# Altium footprint library etb_drv.PcbLib: 19 footprints (part 2 of 2)
Each footprint in its own frame and in the unit in brackets; x right, y up, seen from the top. Pads: shape width x height; smd on the part's side, far side on the other; paste and mask are expansions set on the pad; w line width, h text height; cw(c..) or ccw(c..) is an arc to the next point about the centre after c.
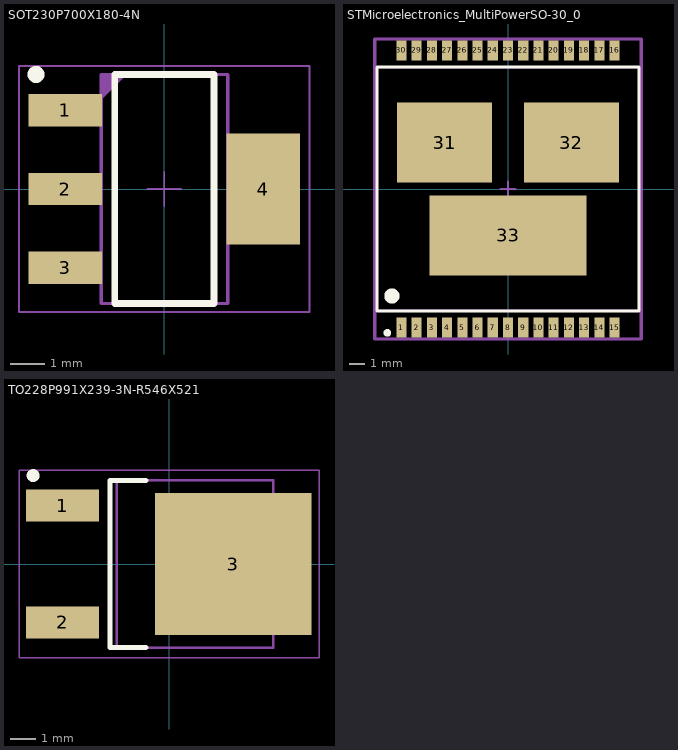
[diagram p1: the footprints below, top view; thin cyan lines are the x and y axes]

## SOT230P700X180-4N [mm]
pads (4):
  rect 2.15x0.95 smd: 1(-2.9,2.3) 2(-2.9,0) 3(-2.9,-2.3)
  rect 2.15x3.25 smd: 4(2.9,0)
Top Overlay:
  circle w0.25: c-3.75,3.35 r0.125
  lines w0.2: -1.45,-3.35 -1.45,3.35 1.45,3.35 1.45,-3.35 -1.45,-3.35
Mechanical 14:
  lines w0.1: -1.85,2.675 -1.175,3.35 ; -1.85,2.75 -1.25,3.35 ; -1.85,2.85 -1.35,3.35 ; -1.85,2.95 -1.45,3.35 ; -1.85,3.05 -1.55,3.35 ; -1.85,3.15 -1.65,3.35 ; -1.85,3.25 -1.75,3.35 ; -1.85,-3.35 -1.85,3.35 1.85,3.35 1.85,-3.35 -1.85,-3.35
Mechanical 15:
  lines w0.05: -0.5,0 0.5,0 ; 0,-0.5 0,0.5 ; -4.25,-3.6 -4.25,3.6 4.25,3.6 4.25,-3.6 -4.25,-3.6
3D body "SOT230P700X180-4N.stp": height 1.81, standoff 0, extent -3.649,-3.35 3.649,3.35

## STMicroelectronics_MultiPowerSO-30_0 [mm]
pads (33):
  rect 0.665x1.3 smd paste+0 mask+0: 1(-7,-9.1) 2(-6,-9.1) 3(-5,-9.1) 4(-4,-9.1) 5(-3,-9.1) 6(-2,-9.1) 7(-1,-9.1) 8(0,-9.1) 9(1,-9.1) 10(2,-9.1) 11(3,-9.1) 12(4,-9.1) 13(5,-9.1) 14(6,-9.1) 15(7,-9.1) 16(7,9.1) 17(6,9.1) 18(5,9.1) 19(4,9.1) 20(3,9.1) 21(2,9.1) 22(1,9.1) 23(0,9.1) 24(-1,9.1) 25(-2,9.1) 26(-3,9.1) 27(-4,9.1) 28(-5,9.1) 29(-6,9.1) 30(-7,9.1)
  rect 6.23x5.25 smd paste+0 mask+0: 31(-4.165,3.05) 32(4.165,3.05)
  rect 10.3x5.25 smd paste+0 mask+0: 33(0,-3.05)
Top Overlay:
  circle w0.5: c-7.625,-7.025 r0.25
  circle w0.25: c-7.925,-9.45 r0.125
  lines w0.2: -8.6,-8 -8.6,8 8.6,8 8.6,-8 -8.6,-8
Mechanical 10:
  lines w0.2: -8.75,-9.85 -8.75,9.85 8.75,9.85 8.75,-9.85 -8.75,-9.85
  text ".Designator" at 0,0 h1
Mechanical 12:
  lines w0.15: -8.6,-8 -8.6,8 8.6,8 8.6,-8 -8.6,-8
Mechanical 15:
  lines w0.1: -0.5,0 0.5,0 ; 0,-0.5 0,0.5
  lines w0.2: -8.75,-9.85 -8.75,9.85 8.75,9.85 8.75,-9.85 -8.75,-9.85
3D body "3dmodel.step": height 0.25, standoff 0, extent -8.75,-9.85 8.75,9.85

## TO228P991X239-3N-R546X521 [mm]
pads (3):
  rect 2.85x1.25 smd: 1(-4.15,2.28) 2(-4.15,-2.28)
  rect 6.1x5.55 smd: 3(2.5,0)
Top Overlay:
  circle w0.25: c-5.3,3.45 r0.125
  lines w0.2: -0.9,-3.25 -2.3,-3.25 -2.3,3.25 -0.9,3.25
Top Paste:
  region: 2.86,0.36 4.84,0.36 4.84,2.06 2.86,2.06
  region: 0.16,0.36 2.14,0.36 2.14,2.06 0.16,2.06
  region: 2.86,-2.06 4.84,-2.06 4.84,-0.36 2.86,-0.36
  region: 0.16,-2.06 2.14,-2.06 2.14,-0.36 0.16,-0.36
Mechanical 14:
  lines w0.1: 4.062,-2.602 4.356,-2.602 4.952,-1.942 4.952,1.942 4.356,2.602 4.062,2.602 ; -2.032,-3.27 4.062,-3.27 4.062,3.27 -2.032,3.27 -2.032,-3.27
Mechanical 15:
  lines w0.05: -0.5,0 0.5,0 ; 0,-0.5 0,0.5 ; -5.85,-3.65 5.85,-3.65 5.85,3.65 -5.85,3.65 -5.85,-3.65
3D body "TO228P991X239-3N-R546X521.stp": height 2.28, standoff 0, extent -4.992,-3.27 4.946,3.27